# Altium schematic symbol library AHMET_CAN_KARACAN.SchLib: 94 symbols (part 3 of 3)
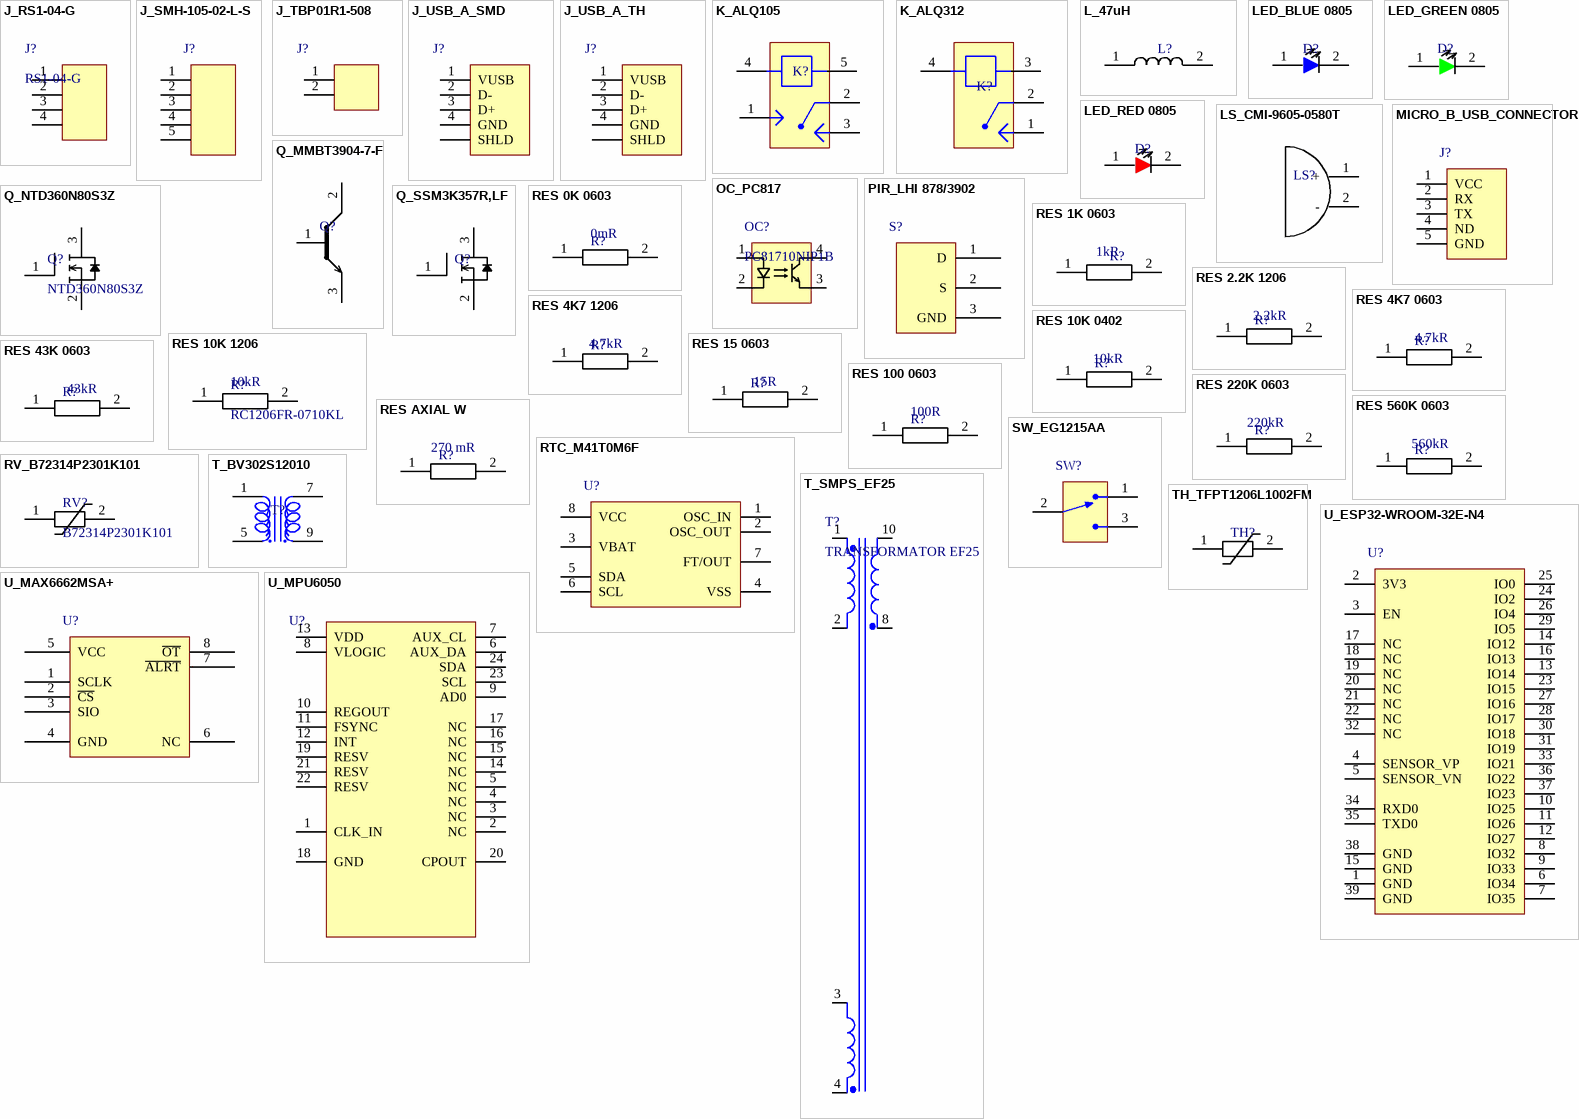
[diagram p4: symbols J_RS1-04-G to U_MPU6050]

## RES 560K 0603
designator R?, comment value 560kR  (hidden comment: RC0603JR-07560KL)
SMD Chip Resistor, 560 kOhm, ± 5%, 100 mW, 0603 [1608 Metric], Thick Film, General Purpose; Manufacturer: Yageo; Power Rating: 100mW; Voltage Rating: 75V; Voltage Rating (DC): 50V; Temperature Coefficient: 100ppm/°C; Designed By: Ahmet Can; Supplier: Digi-Key; Supplier Part Number: 311-560KGRCT-ND; Manufacturer Part Number: RC0603JR-07560KL; RoHS: Yes; Category: Chip SMD Resistors; Stock: 501281; Pricing: 1=0,1, 10=0,014, 50=0,0088, 100=0,0073, 500=0,00486, 1000=0,00415 (USD); Case/Package: 0603; Pins: 2; Case Code (Metric): 1608; Case Code (Imperial): 0603; Weight: 7.1E-05oz; Min Operating Temperature: -55°C; Max Operating Temperature: 155°C; Package Quantity: 1; Tolerance: 5%; Packaging: Tape and Reel; Resistor Type: Thick Film; Number of Terminations: 2; Termination: SMD/SMT; Max Power Dissipation: 100mW; Working Voltage: 75V; Features: Moisture Resistant; Series: RC; Resistance Tolerance: 5%; Technology: THICK FILM; Voltage Rating (AC): 50V; Length: 0.063inch; Width: 0.8mm; Height: 0.022inch; Lead Free: Lead Free; RoHS Compliant: Yes; Reach SVHC Compliant: Unknown; ComponentLink1URL: https://datasheet.ciiva.com/2453/pyu-r-int-thick-7-2453056.pdf?src-supplier=Digi-Key; ComponentLink1Description: https://datasheet.ciiva.com/2453/pyu-r-int-thick-7-2453056.pdf?src-supplier=Digi-Key; ComponentLink2URL: https://datasheet.ciiva.com/2453/pyu-r-int-thick-7-2453057.pdf?src-supplier=Digi-Key; ComponentLink2Description: https://datasheet.ciiva.com/2453/pyu-r-int-thick-7-2453057.pdf?src-supplier=Digi-Key; ComponentLink3URL: https://datasheet.ciiva.com/2453/pyu-r-int-thick-7-2453055.pdf?src-supplier=Digi-Key; ComponentLink3Description: https://datasheet.ciiva.com/2453/pyu-r-int-thick-7-2453055.pdf?src-supplier=Digi-Key
footprint RE_0603
pins: 1, 2

## RES AXIAL W
designator R?, comment value 270 mR  (hidden comment: 5WD27)
270 mOhms ±5% 5W Through Hole Resistor Axial Wirewound; Manufacturer: NTE Electronics, Inc; Designed By: Ahmet Can; Packaging: Box; Tolerance: ±5%; Max Operating Temperature: 155°C; Min Operating Temperature: -55°C; Pins: 2; Case/Package: Axial_W; Category: Through Hole Resistors; Manufacturer Part Number: 5WD27; Supplier Part Number: 2368-5WD27-ND; Supplier: Digi-Key
footprint RES_AXIAL_W
pins: 1, 2

## RTC_M41T0M6F
designator U?, comment M41T0M6F  (value not drawn)
M41T0 Series 2 to 5.5 V Serial I2C Real Time Clock Surface Mount - SOIC-8; Manufacturer: STMicroelectronics; Max Supply Voltage: 5.5V; Min Supply Voltage: 2V; Interface: I2C,Serial,2-Wire; Memory Size: 8B; Time Format: HH:MM:SS; Date Format: YY-MM-DD-dd; DesignedBy: Ahmet Can; Supplier: Digi-Key; Supplier Part Number: 497-4698-1-ND; Manufacturer Part Number: M41T0M6F; RoHS: Yes; Category: Real Time Clocks; Stock: 30971; Pricing: 1=2,96, 10=2,655, 25=2,51, 100=2,1754, 250=2,06388, 500=1,8519, 1000=1,56185 (USD); Mounting Technology: Surface Mount; Case/Package: SOIC; Pins: 8; Weight: 0.019048oz; Min Operating Temperature: -40°C; Max Operating Temperature: 85°C; Packaging: Tape and Reel; Logic Function: Clock; Series: -; Nominal Supply Voltage: 5.5V; Length: 5mm; Width: 4mm; Height: 1.5mm; Radiation Hardening: No; Lead Free: Lead Free; Temperature Grade: INDUSTRIAL; RoHS Compliant: Yes; ComponentLink1URL: https://datasheet.ciiva.com/4772/cd00003139-81284-4772149.pdf?src-supplier=Mouser; ComponentLink1Description: https://datasheet.ciiva.com/4772/cd00003139-81284-4772149.pdf?src-supplier=Mouser; ComponentLink2URL: https://datasheet.ciiva.com/41459/001185346-da-01-en-ic-rtc-serial-2-5-5v-m41t0m6f-soic-8-stm-41459817.pdf?src-supplier=Conrad; ComponentLink2Description: https://datasheet.ciiva.com/41459/001185346-da-01-en-ic-rtc-serial-2-5-5v-m41t0m6f-soic-8-stm-41459817.pdf?src-supplier=Conrad; ComponentLink3URL: https://datasheet.ciiva.com/15152/getdatasheetpartid-98630-15152779.pdf?src-supplier=Verical; ComponentLink3Description: https://datasheet.ciiva.com/15152/getdatasheetpartid-98630-15152779.pdf?src-supplier=Verical; Non-volatile Memory Size: 8B
footprint 8_SOIC
pins: 1 OSC_IN, 2 OSC_OUT, 3 VBAT, 4 VSS, 5 SDA, 6 SCL, 7 FT/OUT, 8 VCC

## RV_B72314P2301K101
designator RV?, comment B72314P2301K101
470 V 6 kA Varistor 1 Circuit Through Hole Disc 14mm; Manufacturer: TDK EPCOS; Designed By: Ahmet Can; Energy: 140 J; Surge Current: 6 kA; Typ Varistor Voltage: 470 V; Max Varistor Voltage: 517 V; Min Varistor Voltage: 423 V; Max DC Voltage: 385 V; Max AC Voltage: 300 V; Supplier: Digi-Key; Supplier Part Number: 495-B72314P2301K101-ND; Manufacturer Part Number: B72314P2301K101; RoHS: No; Stock: 29407; Pricing: 1=0,86, 10=0,766, 25=0,7268, 100=0,597, 250=0,55808, 500=0,49318, 1000=0,38936, 2500=0,3634, 5000=0,34523 (USD); Case/Package: Disd 14mm
pins: 1, 2

## SW_EG1215AA
designator SW?, comment EG1215AA  (value not drawn)
Slide Switch, SPDT, 0.025A, 24V, SMD; Manufacturer: E-Switch; Mechanical Life: 10000Cycles; Switch Function: On-On; Actuator Type: Standard; Switch Travel: 1.5mm; Operating Force: 150gf; Actuator Length: 1.4mm; Designed By: Ahmet Can; Supplier: Digi-Key; Supplier Part Number: EG5720CT-ND; Manufacturer Part Number: EG1215AA; RoHS: Yes; Stock: 17783; Pricing: 1=0,99, 10=0,951, 25=0,8884, 100=0,7715, 250=0,702, 500=0,6508, 1000=0,60327 (USD); Mounting Technology: Surface Mount; Min Operating Temperature: -20°C; Max Operating Temperature: 70°C; Throw Configuration: SPDT; Packaging: Cut Tape; Voltage Rating (DC): 24V; Termination: Gull Wing; Electrical Life: 10000Cycles; Series: EG; RoHS Compliant: Yes; ComponentLink1URL: https://media.digikey.com/pdf/Data%20Sheets/E-Switch%20PDFs/EG1215_Series_Ds.pdf?src-supplier=Digi-Key; ComponentLink1Description: https://media.digikey.com/pdf/Data%20Sheets/E-Switch%20PDFs/EG1215_Series_Ds.pdf?src-supplier=Digi-Key; ComponentLink2URL: http://www.farnell.com/datasheets/2645007.pdf?src-supplier=Farnell; ComponentLink2Description: http://www.farnell.com/datasheets/2645007.pdf?src-supplier=Farnell; Category: Slide Switches
footprint EG1215AA
pins: 1, 2, 3

## T_BV302S12010
designator T?, comment BV302S12010  (value not drawn)
Sealed Transformer EI30/10.5; Manufacturer: Zettler Magnetics; Primary Voltager: 230V; Secondary Voltage: 12V; Designed By: Ahmet Can; Rated Power: 1VA; Supplier: Digi-Key; Supplier Part Number: 3388-BV302S12010-ND; Manufacturer Part Number: BV302S12010; RoHS: No; Category: Power Transformers; Stock: 898; Pricing: 1=3,22, 10=2,611, 25=2,1108, 50=1,9776, 100=1,8887, 250=1,83316, 500=1,7776, 1000=1,72205, 5000=1,58318 (USD); RoHS Compliant: No; Packaging: Tube
footprint BV_302
pins: 1, 5, 7, 9

## T_SMPS_EF25
designator T?, comment TRANSFORMATOR EF25
EF25; Designed By: Ahmet Can; Calculated Output Power for  Forward (100kHz): 47 W; Calculated Output Power for Flyback (100kHz): 32 W; Calculated Output Power for Push-Pull (100kHz): 95 W; Winding area (Aw): 95.3 mm-1; Center leg area (Ac): 52.1 mm-1; Effective volume (Ve): 2990 mm-1; Effective area (Ae): 51.8 mm-1; Effective path length (Ie): 57.8 mm-1; Core constant (C1): 1.114 mm-1; Weight of set (W): 15 g
footprint SMPS_EF25
pins: 1 Pri+, 2 Pri-, 3 Sec3+, 4 Sec3-, 8, 10 Sec1+

## TH_TFPT1206L1002FM
designator TH?, comment TFPT1206L1002FM  (value not drawn)
Thermistor PTC 10K Ohm 1% 2-Pin 1206 Surface Mount Solder Pad T/R Automotive; Manufacturer: Vishay Dale; Value: 10kR; Power Rating: 125mW; Voltage: 40V; Designed By: Ahmet Can; Supplier: Digi-Key; Supplier Part Number: 541-3533-1-ND; Manufacturer Part Number: TFPT1206L1002FM; RoHS: Yes; Category: Thermistors; Stock: 53; Pricing: 1=1,3, 10=0,973, 25=0,778, 100=0,7133, 500=0,59978, 1000=0,53495 (USD); Mounting Technology: Surface Mount; Case/Package: 1206; Case Code (Imperial): 1206; Min Operating Temperature: -55°C; Max Operating Temperature: 125°C; Packaging: Tape and Reel; Package Quantity: 5000; Tolerance: 1%; Max Power Dissipation: 125mW; Termination: SMD/SMT; Series: TFPT; Resistance Tolerance: 1%; Length: 3.2mm; Width: 1.6mm; Height: 0.55mm; Lead Free: Lead Free; RoHS Compliant: Yes; ComponentLink1URL: https://datasheet.ciiva.com/2852/tfpt-2852076.pdf?src-supplier=Digi-Key; ComponentLink1Description: https://datasheet.ciiva.com/2852/tfpt-2852076.pdf?src-supplier=Digi-Key
footprint RE_1206
pins: 1, 2

## U_ESP32-WROOM-32E-N4
designator U?, comment ESP32-WROOM-32E-N4  (value not drawn)
SMD module, ESP32-D0WD-V3, ESP32 ECO V3, 4 MB SPI flash, PCB antenna; Manufacturer: Espressif Systems; Manufacturer Part Number: ESP32-WROOM-32E(M113EH3200PH3Q0); Designed By: Ahmet Can; Max Supply Voltage: 3.6V; Nominal Supply Voltage: 3.3V; Min Supply Voltage: 3V; Supplier: Digi-Key; Supplier Part Number: 1965-ESP32-WROOM-32E-N4TR-ND; RoHS: No; Category: RF Receivers, Transceivers; Stock: 15684; Pricing: 650=2,94 (USD); Case/Package: 38-SMD Module; Pins: 38; Min Operating Temperature: –40 °C; Max Operating Temperature: 85 °C
footprint 38_SMD
pins: 1 GND, 2 3V3, 3 EN, 4 SENSOR_VP, 5 SENSOR_VN, 6 IO34, 7 IO35, 8 IO32, 9 IO33, 10 IO25, 11 IO26, 12 IO27, 13 IO14, 14 IO12, 15 GND, 16 IO13, 17 NC, 18 NC, 19 NC, 20 NC, 21 NC, 22 NC, 23 IO15, 24 IO2, 25 IO0, 26 IO4, 27 IO16, 28 IO17, 29 IO5, 30 IO18, 31 IO19, 32 NC, 33 IO21, 34 RXD0, 35 TXD0, 36 IO22, 37 IO23, 38 GND, 39 GND

## U_MAX6662MSA+
designator U?, comment MAX6662MSA+  (value not drawn)
Temp Sensor Digital Serial (3-Wire, SPI) 8-Pin SOIC N Tube; Manufacturer: Maxim; Min Supply Voltage: 3V; Max Supply Voltage: 5.5V; Designed By: Ahmet Can; Resolution: 12 b; Supplier: Digi-Key; Supplier Part Number: MAX6662MSA+-ND; Manufacturer Part Number: MAX6662MSA+; RoHS: Yes; Category: Temperature and Humidity Sensors; Stock: 593; Pricing: 1=4,61, 10=3,454, 25=3,0704, 50=2,9168, 100=2,8401, 500=2,37956, 1000=2,22604 (USD); ComponentLink1URL: https://datasheet.ciiva.com/5299/max6662-89142-5299456.pdf?src-supplier=Mouser; ComponentLink1Description: https://datasheet.ciiva.com/5299/max6662-89142-5299456.pdf?src-supplier=Mouser; ComponentLink2URL: https://datasheet.ciiva.com/2003/max6662-2003390.pdf?src-supplier=Digi-Key; ComponentLink2Description: https://datasheet.ciiva.com/2003/max6662-2003390.pdf?src-supplier=Digi-Key; ComponentLink3URL: https://datasheet.ciiva.com/3277/max6662-3277979.pdf?src-supplier=Avnet; ComponentLink3Description: https://datasheet.ciiva.com/3277/max6662-3277979.pdf?src-supplier=Avnet; Pins: 8; Case/Package: SOIC; Max Operating Temperature: 150°C; Min Operating Temperature: -55°C; Output Type: SPI; Features: Output Switch, Programmable Limit, Shutdown Mode
footprint 8_SOIC
pins: 1 SCLK "SERIAL CLOCK INPUT", 2 ~{CS} "CHIP SELECT INPUT", 3 SIO "SERIAL DATA INPUT", 4 GND, 5 VCC, 6 NC, 7 ~{ALRT}, 8 ~{OT} "OVERTEMPARATURE OUTPUT"

## U_MPU6050
designator U?, comment MPU6050  (value not drawn)
IMU ACCEL/GYRO 3-AXIS I2C 24QFN; Manufacturer: TDK InvenSense; Sensor Type: Accelerometer, Gyroscope, 6 Axis; Output Type: I²C; Designed By: Ahmet Can; Supplier: Digi-Key; Supplier Part Number: 1428-1007-1-ND; Manufacturer Part Number: MPU-6050; RoHS: Yes; Category: Inertial Measurement Units (IMUs); Stock: 40546; Pricing: 1=8,71, 10=6,969, 25=6,4464, 100=5,5752, 500=5,22676, 1000=4,8783 (USD); ComponentLink1URL: https://datasheet.ciiva.com/1513/1788002-1513632.pdf?src-supplier=Element14; ComponentLink1Description: https://datasheet.ciiva.com/1513/1788002-1513632.pdf?src-supplier=Element14; ComponentLink2URL: https://datasheet.ciiva.com/22731/1788002-22731434.pdf?src-supplier=Element14; ComponentLink2Description: https://datasheet.ciiva.com/22731/1788002-22731434.pdf?src-supplier=Element14; Min Operating Temperature: -40°C; Max Operating Temperature: 85°C
footprint QFN_24 (PQFN, 24-Leads, Body 4,00x4,00mm, Pitch 0,50mm, Thermal Pad 4,00x2,70mm, IPC Medium Density)
pins: 1 CLK_IN, 2 NC, 3 NC, 4 NC, 5 NC, 6 AUX_DA, 7 AUX_CL, 8 VLOGIC, 9 AD0, 10 REGOUT, 11 FSYNC, 12 INT, 13 VDD, 14 NC, 15 NC, 16 NC, 17 NC, 18 GND, 19 RESV, 20 CPOUT, 21 RESV, 22 RESV, 23 SCL, 24 SDA

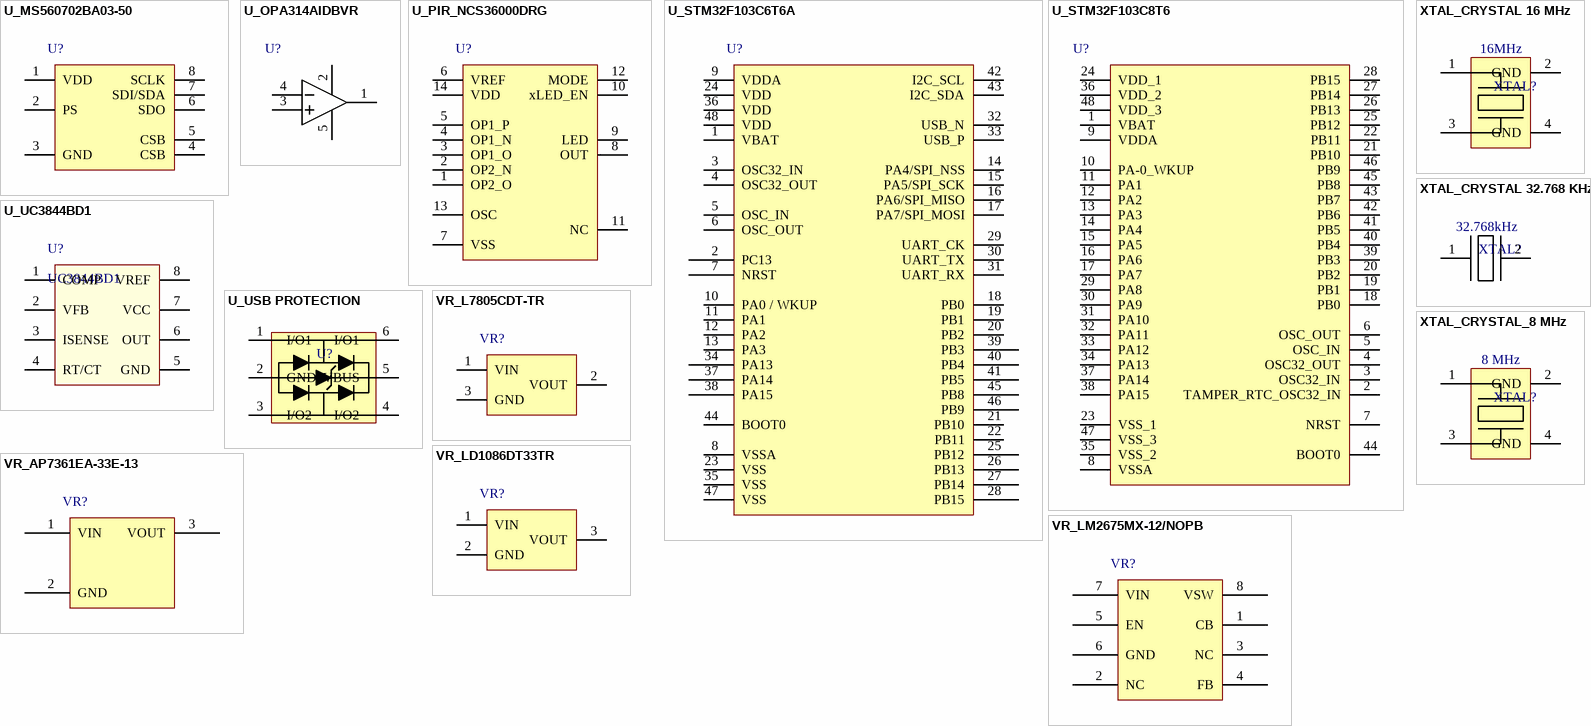
[diagram p2: symbols U_MS560702BA03-50 to XTAL_CRYSTAL_8 MHz]

## U_MS560702BA03-50
designator U?, comment MS560702BA03-50  (value not drawn)
Board Mount Pressure Sensor 0.01bar to 1.2bar Absolute 8-Pin QFN T/R; Manufacturer: TE Connectivity; Operating Pressure: 0.15PSI ~ 17.4PSI (1kPa ~ 120kPa); Output Type: I²C, SPI; Supply Voltage: 1.8V ~ 3.6V; Designed By: Ahmet Can; Supplier: Digi-Key; Supplier Part Number: 223-1198-1-ND; Manufacturer Part Number: MS560702BA03-50; RoHS: Yes; Category: Pressure Sensors; Stock: 66297; Pricing: 1=10,86, 10=8,686, 25=8,0344, 100=6,9488, 500=6,5145, 1000=6,0802 (USD); ComponentLink1URL: http://www.farnell.com/datasheets/1756127.pdf?src-supplier=Farnell; ComponentLink1Description: http://www.farnell.com/datasheets/1756127.pdf?src-supplier=Farnell; ComponentLink2URL: https://datasheet.octopart.com/MS560702BA03-50-TE-Connectivity-datasheet-21074431.pdf?src-supplier=Element14; ComponentLink2Description: https://datasheet.octopart.com/MS560702BA03-50-TE-Connectivity-datasheet-21074431.pdf?src-supplier=Element14; ComponentLink3URL: https://www.te.com/commerce/DocumentDelivery/DDEController?Action=srchrtrv&DocNm=MS5607-02BA03&DocType=Data+Sheet&DocLang=English&src-supplier=Digi-Key; ComponentLink3Description: https://www.te.com/commerce/DocumentDelivery/DDEController?Action=srchrtrv&DocNm=MS5607-02BA03&DocType=Data+Sheet&DocLang=English&src-supplier=Digi-Key; ComponentLink4URL: https://datasheet.octopart.com/MS560702BA03-50-TE-Connectivity-datasheet-15137560.pdf?src-supplier=Future+Electronics; ComponentLink4Description: https://datasheet.octopart.com/MS560702BA03-50-TE-Connectivity-datasheet-15137560.pdf?src-supplier=Future+Electronics; ComponentLink5URL: https://datasheet.octopart.com/MS560702BA03-50-TE-Connectivity-datasheet-65793091.pdf?src-supplier=Sager+Electronics; ComponentLink5Description: https://datasheet.octopart.com/MS560702BA03-50-TE-Connectivity-datasheet-65793091.pdf?src-supplier=Sager+Electronics; ComponentLink6URL: https://datasheet.octopart.com/MS560702BA03-50-TE-Connectivity-datasheet-93687046.pdf?src-supplier=Master+Electronics; ComponentLink6Description: https://datasheet.octopart.com/MS560702BA03-50-TE-Connectivity-datasheet-93687046.pdf?src-supplier=Master+Electronics
footprint 8-SMD_MS560702BA03 (TSQFP, 48-Leads, Body 7,00x7,00mm, Pitch 0,50mm, IPC Medium Density)
pins: 1 VDD, 2 PS, 3 GND, 4 CSB, 5 CSB, 6 SDO, 7 SDI/SDA, 8 SCLK

## U_OPA314AIDBVR
designator U?, comment OPA314AIDBVR  (value not drawn)
IC OPAMP GP 3MHZ RRO SOT23-5; Manufacturer: Texas Instruments; Designed By: Ahmet Can; Cse/Package: SOT-23-5; Max Supply Voltage: 5.5 V; Min Supply Voltage: 1.8 V; Input Offset Current: 500 µV; Input Bias Current: 0.2 pA; Slew Rate: 1.5V/µs; Supplier: Digi-Key; Supplier Part Number: 296-36699-1-ND; Manufacturer Part Number: OPA314AIDBVR; RoHS: Yes; Category: Amplifiers - Op Amps, Buffer, Instrumentation; Stock: 9278; Pricing: 1=1,16, 10=1,034, 25=0,9812, 100=0,8061, 250=0,75352, 500=0,6659, 1000=0,5257 (USD); ComponentLink1URL: https://datasheet.ciiva.com/14456/opa2314-14456281.pdf?src-supplier=Avnet; ComponentLink1Description: https://datasheet.ciiva.com/14456/opa2314-14456281.pdf?src-supplier=Avnet; ComponentLink2URL: https://datasheet.ciiva.com/14462/opa2314-14462006.pdf?src-supplier=Avnet; ComponentLink2Description: https://datasheet.ciiva.com/14462/opa2314-14462006.pdf?src-supplier=Avnet; ComponentLink3URL: https://datasheet.ciiva.com/29638/opa314-29638827.pdf?src-supplier=Digi-Key; ComponentLink3Description: https://datasheet.ciiva.com/29638/opa314-29638827.pdf?src-supplier=Digi-Key; Max Operating Temperature: 125°C; Min Operating Temperature: -40°C; Output Current: *; Supply Current: *; Gain Bandwidth Product: 3 MHz
footprint SOT_23_5
pins: 1 OUT, 2 V-, 3 +IN, 4 -IN, 5 V+

## U_PIR_NCS36000DRG
designator U?, comment NCS36000DRG  (value not drawn)
NCS36000 Series Single 5.75V Passive Infrared Detector Controller (PIR) -SOIC-14; Manufacturer: ON Semiconductor; Designed By: Ahmet Can; Supply Current: 50 µA; Output Type: Digital; Supplier: Digi-Key; Supplier Part Number: NCS36000DRGOSCT-ND; Manufacturer Part Number: NCS36000DRG; RoHS: Yes; Category: Amplifiers - Op Amps, Buffer, Instrumentation; Stock: 18514; Pricing: 1=1,1, 10=0,983, 25=0,9332, 100=0,7166, 250=0,63328, 500=0,59994, 1000=0,46662 (USD); ComponentLink1URL: https://datasheet.ciiva.com/1781/ncs36000-d-1781637.pdf?src-supplier=Digi-Key; ComponentLink1Description: https://datasheet.ciiva.com/1781/ncs36000-d-1781637.pdf?src-supplier=Digi-Key; ComponentLink2URL: https://datasheet.ciiva.com/4763/ncs36000-d-89569-4763639.pdf?src-supplier=Mouser; ComponentLink2Description: https://datasheet.ciiva.com/4763/ncs36000-d-89569-4763639.pdf?src-supplier=Mouser; ComponentLink3URL: https://datasheet.ciiva.com/1781/ncs36000-d-1781638.pdf?src-supplier=Digi-Key; ComponentLink3Description: https://datasheet.ciiva.com/1781/ncs36000-d-1781638.pdf?src-supplier=Digi-Key; ComponentLink4URL: https://datasheet.ciiva.com/1781/ncs36000-d-1781639.pdf?src-supplier=Digi-Key; ComponentLink4Description: https://datasheet.ciiva.com/1781/ncs36000-d-1781639.pdf?src-supplier=Digi-Key; ComponentLink5URL: https://datasheet.ciiva.com/2965/ncs36000-d-2965212.pdf?src-supplier=Avnet; ComponentLink5Description: https://datasheet.ciiva.com/2965/ncs36000-d-2965212.pdf?src-supplier=Avnet; ComponentLink6URL: https://datasheet.ciiva.com/2966/ncs36000-d-2966525.pdf?src-supplier=Avnet; ComponentLink6Description: https://datasheet.ciiva.com/2966/ncs36000-d-2966525.pdf?src-supplier=Avnet; Type: Detector Controller; Input Type: Digital; Max Operating Temperature: 85°C; Min Operating Temperature: -40°C; Case/Package: 14-SOIC
footprint 14_SOIC
pins: 1 OP2_O "Output of second amplifier", 2 OP2_N "Inverting input of second amplifier", 3 OP1_O "Output of first amplifier", 4 OP1_N "Inverting input of first amplifier", 5 OP1_P "Non−inverting input of first amplifier", 6 VREF, 7 VSS, 8 OUT "CMOS output (10 mA Max)", 9 LED "CMOS output to drive LED (10mA Max)", 10 xLED_EN "Active low LED enable input", 11 NC, 12 MODE "Pin used to select pulse count mode", 13 OSC, 14 VDD

## U_STM32F103C6T6A
designator U?, comment STM32F103C6T6A  (value not drawn)
MCU 32-bit STM32F ARM Cortex M3 RISC 32KB Flash 2.5V/3.3V 48-Pin LQFP Tray; Manufacturer: STMicroelectronics; Number of Timers/Counters: 3; Max Supply Voltage: 3.6V; Interface: I2C,SPI,USART; RAM Size: 10KB; Number of I/Os: 37; Min Supply Voltage: 2V; Data Bus Width: 32b; Clock Frequency: 72MHz; Number of ADC Channels: 10; Designed By: Ahmet Can; Supplier: Digi-Key; Supplier Part Number: 497-11515-ND; Manufacturer Part Number: STM32F103C6T6A; RoHS: Yes; Category: Microcontrollers; Stock: 188; Pricing: 1=6,37, 10=5,723, 25=5,4104, 80=4,689, 250=4,44852, 500=3,99166, 1000=3,36645, 2500=3,19813 (USD); Case/Package: LQFP; Pins: 48; Weight: 0.006409oz; Min Operating Temperature: -40°C; Max Operating Temperature: 85°C; Packaging: Tray; Series: STM32F103C6; Package Quantity: 1500; Memory Format: FLASH; Memory Size: 32KB; Core Architecture: ARM; Length: 7mm; Width: 7mm; Height: 1.4mm; Lead Free: Lead Free; RoHS Compliant: Yes; ComponentLink1URL: https://datasheet.ciiva.com/15122/getdatasheetpartid-69879-15122075.pdf?src-supplier=Verical; ComponentLink1Description: https://datasheet.ciiva.com/15122/getdatasheetpartid-69879-15122075.pdf?src-supplier=Verical; ComponentLink2URL: https://datasheet.ciiva.com/14100/pustm-arm-microcont-stm32f103-en-14100507.pdf?src-supplier=Distrelec; ComponentLink2Description: https://datasheet.ciiva.com/14100/pustm-arm-microcont-stm32f103-en-14100507.pdf?src-supplier=Distrelec
footprint LQGP48-STM (TSQFP, 48-Leads, Body 7,00x7,00mm, Pitch 0,50mm, IPC Medium Density)
pins: 1 VBAT, 2 PC13, 3 OSC32_IN, 4 OSC32_OUT, 5 OSC_IN, 6 OSC_OUT, 7 NRST, 8 VSSA, 9 VDDA, 10 PA0 / WKUP, 11 PA1, 12 PA2, 13 PA3, 14 PA4/SPI_NSS, 15 PA5/SPI_SCK, 16 PA6/SPI_MISO, 17 PA7/SPI_MOSI, 18 PB0, 19 PB1, 20 PB2, 21 PB10, 22 PB11, 23 VSS, 24 VDD, 25 PB12, 26 PB13, 27 PB14, 28 PB15, 29 UART_CK, 30 UART_TX, 31 UART_RX, 32 USB_N, 33 USB_P, 34 PA13, 35 VSS, 36 VDD, 37 PA14, 38 PA15, 39 PB3, 40 PB4, 41 PB5, 42 I2C_SCL, 43 I2C_SDA, 44 BOOT0, 45 PB8, 46 PB9, 47 VSS, 48 VDD

## U_STM32F103C8T6
designator U?, comment Stm32F103C8T6  (value not drawn)
ARM Cortex-M3 STM32 F1 Microcontroller 32-Bit 72MHz 64kB FLASH LQFP48 STM32F103C8T6; Manufacturer: STMicroelectronics; RAM Size: 20KB; Interface: I2C,SPI,USB,CAN,USART; Number of I/Os: 37; Number of Timers/Counters: 3; Max Supply Voltage: 3.6V; Number of ADC Channels: 10; Min Supply Voltage: 2V; Data Bus Width: 32b; Nominal Supply Current: 1.7uA; Number of A/D Converters: 2NUMBER; Number of Channels: 10NUMBER; Designed By: Ahmet Can; Supplier: Digi-Key; Supplier Part Number: 497-6063-ND; Manufacturer Part Number: STM32F103C8T6; RoHS: Yes; Category: Microcontrollers; Stock: 3317; Pricing: 1=6,42, 25=5,5256, 100=4,7979, 500=4,17798, 2500=3,5672 (USD); Case/Package: LQFP; Pins: 48; Weight: 0.006349oz; Min Operating Temperature: -40°C; Max Operating Temperature: 85°C; Packaging: Tray; Package Quantity: 1500; Memory Format: FLASH; Clock Frequency: 72MHz; Memory Size: 64KB; Core Architecture: ARM; Series: STM32F103C8; Length: 7mm; Width: 7mm; Height: 1.4mm; Lead Free: Lead Free; RoHS Compliant: Yes; ComponentLink1URL: https://datasheet.ciiva.com/8054/1730126-8054942.pdf?src-supplier=Element14; ComponentLink1Description: https://datasheet.ciiva.com/8054/1730126-8054942.pdf?src-supplier=Element14; ComponentLink2URL: https://datasheet.ciiva.com/48687/001075658-da-01-en-mcu-64kb-mem-stm32f103c8t6-lqfp-48-stm-48687589.pdf?src-supplier=Conrad; ComponentLink2Description: https://datasheet.ciiva.com/48687/001075658-da-01-en-mcu-64kb-mem-stm32f103c8t6-lqfp-48-stm-48687589.pdf?src-supplier=Conrad
footprint LQGP48-STM (TSQFP, 48-Leads, Body 7,00x7,00mm, Pitch 0,50mm, IPC Medium Density)
pins: 1 VBAT, 2 TAMPER_RTC_OSC32_IN, 3 OSC32_IN, 4 OSC32_OUT, 5 OSC_IN, 6 OSC_OUT, 7 NRST, 8 VSSA, 9 VDDA, 10 PA-0_WKUP, 11 PA1, 12 PA2, 13 PA3, 14 PA4, 15 PA5, 16 PA6, 17 PA7, 18 PB0, 19 PB1, 20 PB2, 21 PB10, 22 PB11, 23 VSS_1, 24 VDD_1, 25 PB12, 26 PB13, 27 PB14, 28 PB15, 29 PA8, 30 PA9, 31 PA10, 32 PA11, 33 PA12, 34 PA13, 35 VSS_2, 36 VDD_2, 37 PA14, 38 PA15, 39 PB3, 40 PB4, 41 PB5, 42 PB6, 43 PB7, 44 BOOT0, 45 PB8, 46 PB9, 47 VSS_3, 48 VDD_3

## U_UC3844BD1
designator U?, comment UC3844BD1
Converter Offline Flyback Topology Up to 500kHz 8-SOIC; Manufacturer: ON Semiconductor; Manufacturer Part Number: UC3844BD1R2G; Topology: Boost, Flyback; Designed By: Ahmet Can; Max Duty Cycle: %48; Max Supply Voltage: 30 V; Min Supply Voltage: 10 V; Supplier: Digi-Key; Supplier Part Number: UC3844BD1R2GOSDKR-ND; RoHS: Yes; Category: Voltage Regulators - Switching; Pricing: 1=0,74, 10=0,653, 25=0,6136, 100=0,4652, 250=0,39592, 500=0,37612, 1000=0,28704 (USD); ComponentLink1URL: https://datasheet.ciiva.com/16502/uc3844bd1r2g-16502269.pdf?src-supplier=Future+Electronics; ComponentLink1Description: https://datasheet.ciiva.com/16502/uc3844bd1r2g-16502269.pdf?src-supplier=Future+Electronics; ComponentLink2URL: https://datasheet.ciiva.com/2015/uc3844b-d-2015301.pdf?src-supplier=Digi-Key; ComponentLink2Description: https://datasheet.ciiva.com/2015/uc3844b-d-2015301.pdf?src-supplier=Digi-Key; ComponentLink3URL: https://datasheet.ciiva.com/2015/uc3844b-d-2015302.pdf?src-supplier=Digi-Key; ComponentLink3Description: https://datasheet.ciiva.com/2015/uc3844b-d-2015302.pdf?src-supplier=Digi-Key; ComponentLink4URL: https://datasheet.ciiva.com/2015/uc3844b-d-2015303.pdf?src-supplier=Digi-Key; ComponentLink4Description: https://datasheet.ciiva.com/2015/uc3844b-d-2015303.pdf?src-supplier=Digi-Key; Case/Package: 8-SOIC; Switching Frequency: Up to 500 kHz
footprint 8_SOIC
pins: 1 COMP (power), 2 VFB, 3 ISENSE, 4 RT/CT (power), 5 GND (power), 6 OUT (power), 7 VCC, 8 VREF

## U_USB PROTECTION
designator U?, comment USBLC6-2SC6  (value not drawn)
USBLC6 Series 2 Line 6 V Uni / Bi-Directional ESD Protection - SOT-23-6; Manufacturer: STMicroelectronics; Direction: Unidirectional,Bidirectional; Value: 3.5pF; Operating Supply Voltage: 1.1V; Number of Channels: 2; Breakdown Voltage: 6V; Clamping Voltage: 17V; Reverse Standoff Voltage: 5.25V; Power Line Protection: Yes; Test Current: 1mA; Max Reverse Leakage Current: 150nA; Peak Pulse Current: 5A; Data Rate: 480Mbps; Number of Elements: 1; Working Voltage: 5V; Designed By: Ahmet Can; Supplier: Digi-Key; Supplier Part Number: 497-5235-1-ND; Manufacturer Part Number: USBLC6-2SC6; RoHS: Yes; Category: TVS Diodes; Stock: 113981; Pricing: 1=0,61, 10=0,522, 100=0,3897, 500=0,3062, 1000=0,2366 (USD); Mounting Technology: Surface Mount; Case/Package: SOT-23; Pins: 6; Min Operating Temperature: -40°C; Max Operating Temperature: 125°C; Packaging: Tape and Reel; Package Quantity: 3000; Termination: SMD/SMT; Number of Bidirectional Channels: 2; Min Breakdown Voltage: 6V; ESD Protection: Yes; Leakage Current: 150nA; Series: USB; Reverse Breakdown Voltage: 6V; Polarity: Unidirectional,Bidirectional; Max Breakdown Voltage: 6V; Clamping Voltage-Max: 17V; Length: 3.05mm; Width: 1.75mm; Height: 1.3mm; Depth: 1.75mm; Radiation Hardening: No; Reach SVHC Compliant: No; Lead Free: Lead Free; RoHS Compliant: Yes; ComponentLink1URL: https://datasheet.ciiva.com/1268/1690354-1268384.pdf?src-supplier=Element14; ComponentLink1Description: https://datasheet.ciiva.com/1268/1690354-1268384.pdf?src-supplier=Element14; ComponentLink2URL: https://datasheet.ciiva.com/4508/cd00050750-113117-4508433.pdf?src-supplier=Mouser; ComponentLink2Description: https://datasheet.ciiva.com/4508/cd00050750-113117-4508433.pdf?src-supplier=Mouser; ComponentLink3URL: https://datasheet.ciiva.com/15143/getdatasheetpartid-148465-15143789.pdf?src-supplier=Verical; ComponentLink3Description: https://datasheet.ciiva.com/15143/getdatasheetpartid-148465-15143789.pdf?src-supplier=Verical; ComponentLink4URL: https://datasheet.ciiva.com/16200/cd00050750-16200026.pdf?src-supplier=Future+Electronics; ComponentLink4Description: https://datasheet.ciiva.com/16200/cd00050750-16200026.pdf?src-supplier=Future+Electronics; ComponentLink5URL: https://datasheet.ciiva.com/41444/001184109-da-01-en-ic-esd-protecti-usblc6-2sc6-sot-23-6-stm-41444156.pdf?src-supplier=Conrad; ComponentLink5Description: https://datasheet.ciiva.com/41444/001184109-da-01-en-ic-esd-protecti-usblc6-2sc6-sot-23-6-stm-41444156.pdf?src-supplier=Conrad
footprint SOT_23_6L
pins: 1 I/O1, 2 GND, 3 I/O2, 4 I/O2, 5 VBUS, 6 I/O1

## VR_AP7361EA-33E-13
designator VR?, comment AP7361EA-33E-13  (value not drawn)
Ldo Cmos Hicurr SOT223 T&r 2.5K; Manufacturer: Diodes; Max Supply Voltage: 6V; Min Supply Voltage: 2.2V; Designed By: Ahmet Can; Supplier: Digi-Key; Supplier Part Number: 31-AP7361EA-33E-13CT-ND; Manufacturer Part Number: AP7361EA-33E-13; RoHS: No; Category: Voltage Regulators - Linear, Low Drop Out (LDO) Regulators; Stock: 4865; Pricing: 1=0,45, 10=0,361, 25=0,33, 100=0,2456, 250=0,2226, 500=0,18422, 1000=0,13817 (USD); Case/Package: SOT-223-3; Min Operating Temperature: -40°C; Max Operating Temperature: 85°C
footprint SOT223
pins: 1 VIN, 2 GND, 3 VOUT

## VR_L7805CDT-TR
designator VR?, comment L7805CDT-TR  (value not drawn)
IC REG LDO 5V 1.5A DPAK; Manufacturer: STMicroelectronics; Designed By: Ahmet Can; Supplier: Digi-Key; Supplier Part Number: 497-7255-1-ND; Manufacturer Part Number: L7805CDT-TR; RoHS: Yes; Category: Voltage Regulators - Linear; Stock: 44558; Pricing: 1=1,12, 10=1, 25=0,9488, 100=0,7795, 250=0,72868, 500=0,64396, 1000=0,50839 (USD); ComponentLink1URL: https://datasheet.ciiva.com/2042/cd00000444-2042783.pdf?src-supplier=Digi-Key; ComponentLink1Description: https://datasheet.ciiva.com/2042/cd00000444-2042783.pdf?src-supplier=Digi-Key; ComponentLink2URL: https://datasheet.ciiva.com/2042/cd00000444-2042784.pdf?src-supplier=Digi-Key; ComponentLink2Description: https://datasheet.ciiva.com/2042/cd00000444-2042784.pdf?src-supplier=Digi-Key; ComponentLink3URL: https://datasheet.ciiva.com/2042/cd00000444-2042785.pdf?src-supplier=Digi-Key; ComponentLink3Description: https://datasheet.ciiva.com/2042/cd00000444-2042785.pdf?src-supplier=Digi-Key; ComponentLink4URL: https://datasheet.ciiva.com/16357/cd00000444-16357893.pdf?src-supplier=Future+Electronics; ComponentLink4Description: https://datasheet.ciiva.com/16357/cd00000444-16357893.pdf?src-supplier=Future+Electronics; ComponentLink5URL: https://datasheet.ciiva.com/4882/cd00000444-4882231.pdf?src-supplier=Mouser; ComponentLink5Description: https://datasheet.ciiva.com/4882/cd00000444-4882231.pdf?src-supplier=Mouser
footprint DPAK_TO-252-3 (D-PAK, 3-Pads, Body 6,15x6,61mm (max), IPC Medium Density)
pins: 1 VIN, 2 VOUT, 3 GND

## VR_LD1086DT33TR
designator VR?, comment LD1117V33  (value not drawn)
LDO Regulator Pos 3.3V 1.3A 3-Pin(3+Tab) TO-220AB Tube; Manufacturer: STMicroelectronics; Max Supply Voltage: 15V; Number of Outputs: 1; Max Power Dissipation: 12W; Polarity: Positive; Quiescent Current: 10mA; Accuracy: 1%; Output Type: Fixed; Dropout Voltage: 1.1V; Input Bias Current: 5mA; Power Supply Rejection Ratio (PSRR): 75dB; Designed By: Ahmet Can; Supplier: Digi-Key; Supplier Part Number: 497-1491-5-ND; Manufacturer Part Number: LD1117V33; RoHS: Yes; Category: Voltage Regulators - Linear; Stock: 1467; Pricing: 1=0,83, 25=0,6952, 100=0,5566, 500=0,44002, 2500=0,3185, 10000=0,29008 (USD); Mounting Technology: Through Hole; Case/Package: TO; Pins: 3; Min Operating Temperature: 0°C; Max Operating Temperature: 125°C; Max Output current: 1.3A; Output Voltage: 3.3V; Output Current: 1.3A; Packaging: Rail/Tube; Number of Regulators: 1; Series: -; Package Quantity: 1000; Nominal Output Voltage: 3.3V; Power Dissipation: 12W; Min Output Voltage: 3.3V; Output Voltage Accuracy: 1%; Output Configuration: Positive; Supply Current: 5mA; Length: 10.4mm; Width: 4.6mm; Height: 9.15mm; Radiation Hardening: No; RoHS Compliant: Yes; Reach SVHC Compliant: No; Lead Free: Lead Free; ComponentLink1URL: https://datasheet.ciiva.com/27055/1991854-27055801.pdf?src-supplier=Jameco; ComponentLink1Description: https://datasheet.ciiva.com/27055/1991854-27055801.pdf?src-supplier=Jameco; ComponentLink2URL: https://datasheet.ciiva.com/15110/getdatasheetpartid-31296-15110899.pdf?src-supplier=Verical; ComponentLink2Description: https://datasheet.ciiva.com/15110/getdatasheetpartid-31296-15110899.pdf?src-supplier=Verical; ComponentLink3URL: https://datasheet.ciiva.com/2044/cd00000544-2044225.pdf?src-supplier=Digi-Key; ComponentLink3Description: https://datasheet.ciiva.com/2044/cd00000544-2044225.pdf?src-supplier=Digi-Key; ComponentLink4URL: https://datasheet.ciiva.com/1511/1776449-1511579.pdf?src-supplier=Element14; ComponentLink4Description: https://datasheet.ciiva.com/1511/1776449-1511579.pdf?src-supplier=Element14; ComponentLink5URL: https://datasheet.ciiva.com/16457/cd00000544-16457726.pdf?src-supplier=Future+Electronics; ComponentLink5Description: https://datasheet.ciiva.com/16457/cd00000544-16457726.pdf?src-supplier=Future+Electronics
footprint DPAK_TO-252-3 (D-PAK, 3-Pads, Body 6,15x6,61mm (max), IPC Medium Density)
pins: 1 VIN, 2 GND, 3 VOUT

## VR_LM2675MX-12/NOPB
designator VR?, comment LM2675MX-12/NOPB  (value not drawn)
SIMPLE SWITCHER® 6.5V to 40V, 1A Low Component Count Step-Down Regulator 8-SOIC -40 to 125; Manufacturer: TI National Semiconductor; Number of Outputs: 1; Output Voltage: 12V; Efficiency: 94%; Min Input Voltage: 8V; Switching Frequency: 260kHz; Quiescent Current: 2.5mA; Output Type: Fixed; Designed By: Ahmet Can; Supplier: Digi-Key; Supplier Part Number: 296-35410-1-ND; Manufacturer Part Number: LM2675MX-12/NOPB; RoHS: Yes; Category: Voltage Regulators - Switching; Pricing: 1=4,71, 10=4,231, 25=3,9996, 100=3,4663, 250=3,28856, 500=2,95082, 1000=2,48864 (USD); Mounting Technology: Surface Mount; Case/Package: SOIC 8; Pins: 8; Min Operating Temperature: -40°C; Max Operating Temperature: 125°C; Output Current: 1A; Packaging: Tape and Reel; Max Output current: 1A; Max Supply Voltage: 40V; Package Quantity: 2500; Operating Supply Voltage: 40V; Series: LM2675; Radiation Hardening: No; Lead Free: Lead Free; RoHS Compliant: Yes; ComponentLink1URL: https://datasheet.ciiva.com/41457/001013881-da-01-en-ic-reg-buck-lm2675mx-12-nopb-soic-8-tid-41457896.pdf?src-supplier=Conrad; ComponentLink1Description: https://datasheet.ciiva.com/41457/001013881-da-01-en-ic-reg-buck-lm2675mx-12-nopb-soic-8-tid-41457896.pdf?src-supplier=Conrad; ComponentLink2URL: https://datasheet.ciiva.com/3220/lm2675-3220840.pdf?src-supplier=Avnet; ComponentLink2Description: https://datasheet.ciiva.com/3220/lm2675-3220840.pdf?src-supplier=Avnet
footprint 8_SOIC
pins: 1 CB, 2 NC, 3 NC, 4 FB, 5 EN, 6 GND, 7 VIN, 8 VSW

## XTAL_CRYSTAL 16 MHz
designator XTAL?, comment Frequency: 16MHz  (hidden comment: ECS-160-20-30B-TR)
Crystal 16MHz ±30ppm (Tol) ±100ppm (Stability) 20pF FUND 50Ohm 4-Pin SMD T/R; Manufacturer: ECS International; Manufacturer Part Number: ECS-160-20-30B-DU; Designed By: Ahmet Can; ESR: 50 Ohms; Frequency Stability: ±50ppm; Operating Mode: Fundamental; Supplier: Digi-Key; Supplier Part Number: XC1513CT-ND; RoHS: Yes; Category: Crystals; Stock: 31156; Pricing: 1=0,87, 10=0,767, 50=0,7172, 100=0,6338, 500=0,60042 (USD); ComponentLink1URL: https://datasheet.ciiva.com/853/ecx-53b-du-853415.pdf?src-supplier=Digi-Key; ComponentLink1Description: https://datasheet.ciiva.com/853/ecx-53b-du-853415.pdf?src-supplier=Digi-Key; ComponentLink2URL: https://datasheet.ciiva.com/853/ecx-53b-du-853416.pdf?src-supplier=Digi-Key; ComponentLink2Description: https://datasheet.ciiva.com/853/ecx-53b-du-853416.pdf?src-supplier=Digi-Key; ComponentLink3URL: https://datasheet.ciiva.com/853/ecx-53b-du-853417.pdf?src-supplier=Digi-Key; ComponentLink3Description: https://datasheet.ciiva.com/853/ecx-53b-du-853417.pdf?src-supplier=Digi-Key; Max Operating Temperature: 70°C; Frequency Tolerance: ±30ppm; Min Operating Temperature: -20°C; Load Capacitance: 20pF
footprint 4-SMD, No Lead
pins: 1, 2 GND, 3, 4 GND

## XTAL_CRYSTAL 32.768 KHz
designator XTAL?, comment Frequency: 32.768kHz  (hidden comment: ABS05-32.768KHZ-T)
CRYSTAL 32.768kHz ±20ppm Crystal 12.5pF 90 kOhm -40°C ^ 85°C Surface Mount 2-SMD; Manufacturer: Abracon; ESR (Equivalent Series Resistance): 90kR; Designed By: Ahmet Can; Supplier: Digi-Key; Supplier Part Number: 535-11899-1-ND; Manufacturer Part Number: ABS05-32.768KHZ-T; RoHS: Yes; Category: Crystals; Stock: 306117; Pricing: 1=0,72, 10=0,603, 50=0,5426, 100=0,4823, 500=0,4582, 1000=0,38586 (USD); Mounting Technology: Surface Mount; Case/Package: CSMD; Pins: 2; Min Operating Temperature: -40°C; Max Operating Temperature: 85°C; Packaging: Tape and Reel; Frequency Tolerance: 20ppm; Load Capacitance: 12.5pF; Package Quantity: 3000; Tolerance: 20ppm; Termination: SMD/SMT; ESR: 90kR; Series: ABS05; Operating Frequency: 32.768 kHz; Length: 1.6mm; Width: 1mm; Height: 0.5mm; Depth: 1mm; Radiation Hardening: No; Reach SVHC Compliant: No; Lead Free: Lead Free; RoHS Compliant: Yes; ComponentLink1URL: https://datasheet.ciiva.com/23810/abs05-23810480.pdf?src-supplier=Newark; ComponentLink1Description: https://datasheet.ciiva.com/23810/abs05-23810480.pdf?src-supplier=Newark; ComponentLink2URL: https://datasheet.ciiva.com/6728/abs05-6728949.pdf?src-supplier=Digi-Key; ComponentLink2Description: https://datasheet.ciiva.com/6728/abs05-6728949.pdf?src-supplier=Digi-Key; ComponentLink3URL: https://datasheet.ciiva.com/6728/abs05-6728950.pdf?src-supplier=Digi-Key; ComponentLink3Description: https://datasheet.ciiva.com/6728/abs05-6728950.pdf?src-supplier=Digi-Key; ComponentLink4URL: https://datasheet.ciiva.com/16411/abs05-16411149.pdf?src-supplier=Future+Electronics; ComponentLink4Description: https://datasheet.ciiva.com/16411/abs05-16411149.pdf?src-supplier=Future+Electronics
footprint 2-SMD, No Lead
pins: 1, 2

## XTAL_CRYSTAL_8 MHz
designator XTAL?, comment value 8 MHz  (hidden comment: ECS-80-10-30B-CKM-TR)
8 MHz ±10ppm Crystal 10pF 100 Ohms 4-SMD, No Lead; Manufacturer: ECS International; Supplier: Digi-Key; Supplier Part Number: 50-ECS-80-10-30B-CKM-CT-ND; Manufacturer Part Number: ECS-80-10-30B-CKM-TR; RoHS: No; Stock: 25024; Pricing: 1=0,66, 10=0,581, 50=0,5432, 100=0,48, 500=0,45474 (USD)
footprint 4-SMD, No Lead
pins: 1, 2 GND, 3, 4 GND